# Altium footprint library Con Audio.PcbLib: 10 footprints
Each footprint in its own frame and in the unit in brackets; x right, y up, seen from the top. Pads: shape width x height; smd on the part's side, far side on the other; paste and mask are expansions set on the pad; w line width, h text height; cw(c..) or ccw(c..) is an arc to the next point about the centre after c.
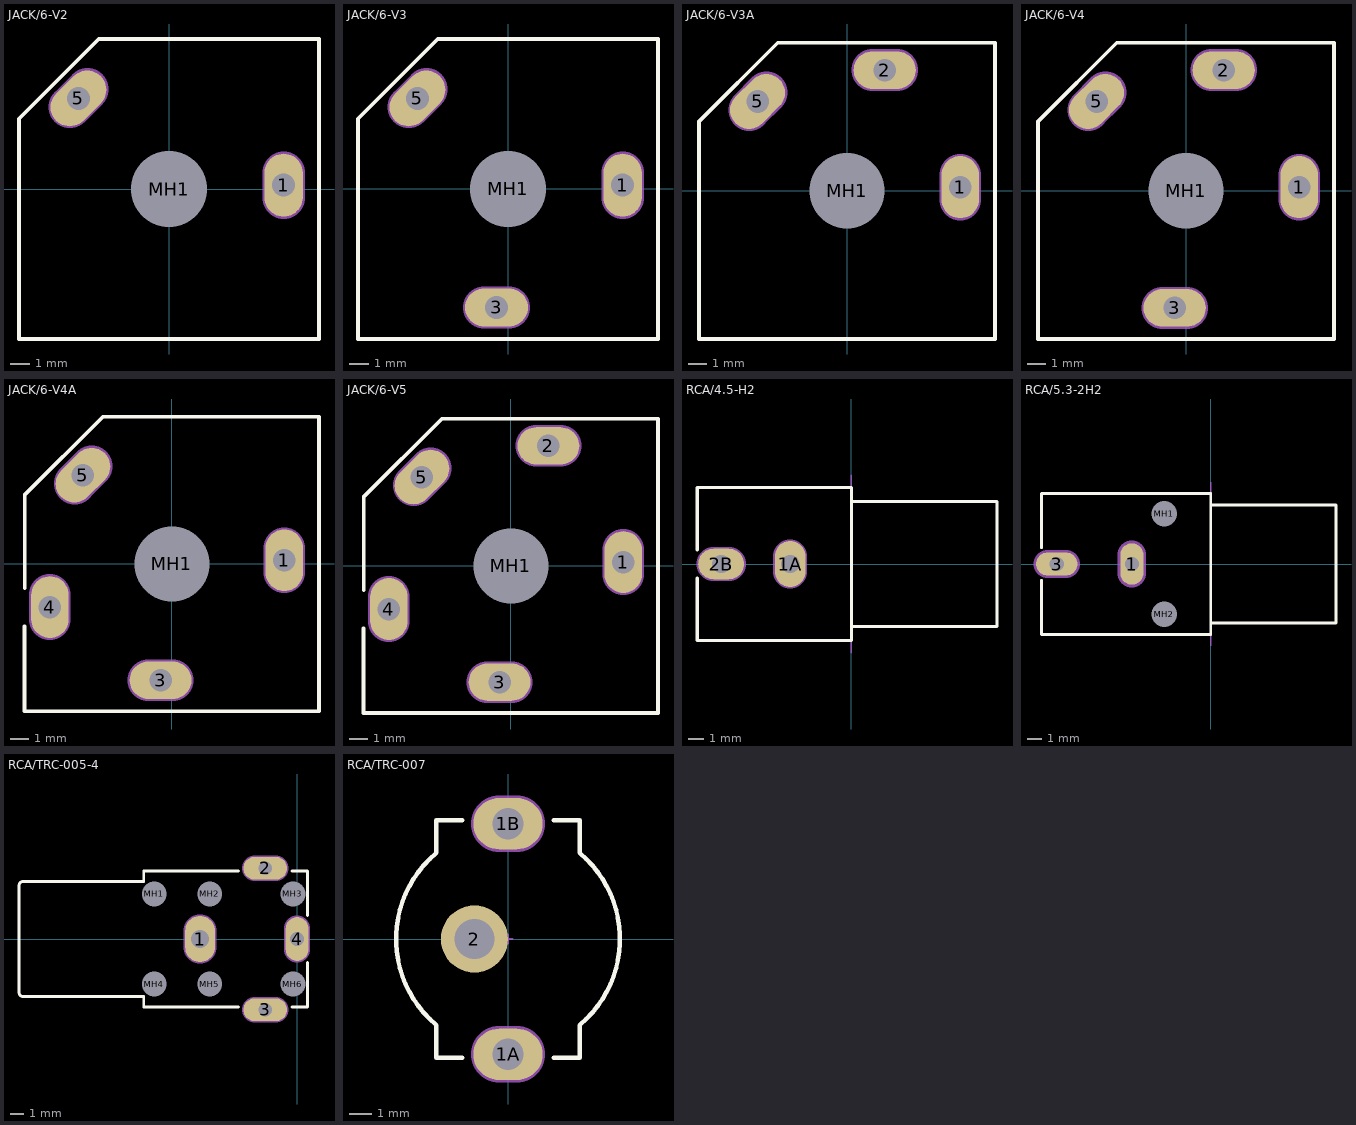
[diagram p0: the footprints below, top view; thin cyan lines are the x and y axes]

## JACK/6-V2 [mm] "Connector; Jack Socket, 1/4\" [6.5mm], Thru-Hole, 2 Position, Vertical, Body 15.7 x 15.7 x 31 mm (WxTxH)"
height 31.1
pads (3):
  oval 2x3.3 hole 1.2: 1(6,0.2)
  oval 2x3.3 hole 1.2 rot 135: 5(-4.738,4.738)
  round 3.7 hole 4 unplated: MH1(0,0)
Top Overlay:
  lines w0.2: -7.85,-7.85 7.85,-7.85 7.85,7.85 -3.675,7.85 -7.85,3.675 -7.85,-7.85
Mechanical 1:
  lines w1.2: -5.185,4.295 -4.266,5.214 ; 6,-0.45 6,0.85
  text "Alert PCB fab to slot details" at -7.9,9.66 h0.3
  text "Slot 1.2x2.5mm, PTH" at -7.9,9.16 h0.3
  text "Assign keep-out area to slot" at -7.9,10.16 h0.3
  text "Mech 1 - Slot cut-out" at -7.9,8.66 h0.3
  text "Mech 2 - Clearance, move to internal plane if present" at -7.9,8.16 h0.3
Mechanical 2:
  lines w2.216: -5.185,4.295 -4.266,5.214 ; 6,-0.45 6,0.85

## JACK/6-V3 [mm] "Connector; Jack Socket, 1/4\" [6.5mm], Thru-Hole, 3 Position, Vertical, Body 15.7 x 15.7 x 31 mm (WxTxH)"
height 31.1
pads (4):
  oval 2x3.3 hole 1.2: 1(6,0.2)
  oval 3.3x2 hole 1.2: 3(-0.6,-6.2)
  oval 2x3.3 hole 1.2 rot 135: 5(-4.738,4.738)
  round 3.7 hole 4 unplated: MH1(0,0)
Top Overlay:
  lines w0.2: -7.85,-7.85 -7.85,3.675 -3.675,7.85 7.85,7.85 7.85,-7.85 -7.85,-7.85
Mechanical 1:
  lines w1.2: -5.185,4.295 -4.266,5.214 ; -1.25,-6.2 0.05,-6.2 ; 6,-0.45 6,0.85
  text "Mech 2 - Clearance, move to internal plane if present" at -7.9,8.16 h0.3
  text "Mech 1 - Slot cut-out" at -7.9,8.66 h0.3
  text "Assign keep-out area to slot" at -7.9,10.16 h0.3
  text "Slot 1.2x2.5mm, PTH" at -7.9,9.16 h0.3
  text "Alert PCB fab to slot details" at -7.9,9.66 h0.3
Mechanical 2:
  lines w2.216: -5.185,4.295 -4.266,5.214 ; -1.25,-6.2 0.05,-6.2 ; 6,-0.45 6,0.85

## JACK/6-V3A [mm] "Connector; Jack Socket, 1/4\" [6.5mm], Thru-Hole, 3 Position, Vertical, Body 15.7 x 15.7 x 31 mm (WxTxH)"
height 31.1
pads (4):
  oval 2x3.3 hole 1.2: 1(6,0.2)
  oval 3.3x2 hole 1.2: 2(2,6.4)
  oval 2x3.3 hole 1.2 rot 135: 5(-4.738,4.738)
  round 3.7 hole 4 unplated: MH1(0,0)
Top Overlay:
  lines w0.2: -7.85,-7.85 7.85,-7.85 7.85,7.85 -3.675,7.85 -7.85,3.675 -7.85,-7.85
Mechanical 1:
  lines w1.2: -5.185,4.295 -4.266,5.214 ; 1.35,6.4 2.65,6.4 ; 6,-0.45 6,0.85
  text "Mech 2 - Clearance, move to internal plane if present" at -7.9,8.16 h0.3
  text "Mech 1 - Slot cut-out" at -7.9,8.66 h0.3
  text "Assign keep-out area to slot" at -7.9,10.16 h0.3
  text "Slot 1.2x2.5mm, PTH" at -7.9,9.16 h0.3
  text "Alert PCB fab to slot details" at -7.9,9.66 h0.3
Mechanical 2:
  lines w2.216: -5.185,4.295 -4.266,5.214 ; 1.35,6.4 2.65,6.4 ; 6,-0.45 6,0.85

## JACK/6-V4 [mm] "Connector; Jack Socket, 1/4\" [6.5mm], Thru-Hole, 4 Position, Vertical, Body 15.7 x 15.7 x 31 mm (WxTxH)"
height 31.1
pads (5):
  oval 2x3.3 hole 1.2: 1(6,0.2)
  oval 3.3x2 hole 1.2: 2(2,6.4) 3(-0.6,-6.2)
  oval 2x3.3 hole 1.2 rot 135: 5(-4.738,4.738)
  round 3.7 hole 4 unplated: MH1(0,0)
Top Overlay:
  lines w0.2: -7.85,-7.85 7.85,-7.85 7.85,7.85 -3.675,7.85 -7.85,3.675 -7.85,-7.85
Mechanical 1:
  lines w1.2: -5.185,4.295 -4.266,5.214 ; -1.25,-6.2 0.05,-6.2 ; 1.35,6.4 2.65,6.4 ; 6,-0.45 6,0.85
  text "Mech 2 - Clearance, move to internal plane if present" at -7.9,8.16 h0.3
  text "Mech 1 - Slot cut-out" at -7.9,8.66 h0.3
  text "Assign keep-out area to slot" at -7.9,10.16 h0.3
  text "Slot 1.2x2.5mm, PTH" at -7.9,9.16 h0.3
  text "Alert PCB fab to slot details" at -7.9,9.66 h0.3
Mechanical 2:
  lines w2.216: -5.185,4.295 -4.266,5.214 ; -1.25,-6.2 0.05,-6.2 ; 1.35,6.4 2.65,6.4 ; 6,-0.45 6,0.85

## JACK/6-V4A [mm] "Connector; Jack Socket, 1/4\" [6.5mm], Thru-Hole, 4 Position, Vertical, Body 15.7 x 15.7 x 31 mm (WxTxH)"
height 31.1
pads (5):
  oval 2x3.3 hole 1.2: 1(6,0.2) 4(-6.5,-2.3)
  oval 3.3x2 hole 1.2: 3(-0.6,-6.2)
  oval 2x3.3 hole 1.2 rot 135: 5(-4.738,4.738)
  round 3.7 hole 4 unplated: MH1(0,0)
Top Overlay:
  lines w0.2: -7.85,-3.32 -7.85,-7.85 7.85,-7.85 7.85,7.85 -3.675,7.85 -7.85,3.675 -7.85,-1.28
Mechanical 1:
  lines w1.2: -6.5,-2.95 -6.5,-1.65 ; -5.185,4.295 -4.266,5.214 ; -1.25,-6.2 0.05,-6.2 ; 6,-0.45 6,0.85
  text "Alert PCB fab to slot details" at -7.9,9.66 h0.3
  text "Slot 1.2x2.5mm, PTH" at -7.9,9.16 h0.3
  text "Assign keep-out area to slot" at -7.9,10.16 h0.3
  text "Mech 1 - Slot cut-out" at -7.9,8.66 h0.3
  text "Mech 2 - Clearance, move to internal plane if present" at -7.9,8.16 h0.3
Mechanical 2:
  lines w2.216: -6.5,-2.95 -6.5,-1.65 ; -5.185,4.295 -4.266,5.214 ; -1.25,-6.2 0.05,-6.2 ; 6,-0.45 6,0.85

## JACK/6-V5 [mm] "Connector; Jack Socket, 1/4\" [6.5mm], Thru-Hole, 5 Position, Vertical, Body 15.7 x 15.7 x 31 mm (WxTxH)"
height 31.1
pads (6):
  oval 2x3.3 hole 1.2: 1(6,0.2) 4(-6.5,-2.3)
  oval 3.3x2 hole 1.2: 2(2,6.4) 3(-0.6,-6.2)
  oval 2x3.3 hole 1.2 rot 135: 5(-4.738,4.738)
  round 3.7 hole 4 unplated: MH1(0,0)
Top Overlay:
  lines w0.2: -7.85,-3.32 -7.85,-7.85 7.85,-7.85 7.85,7.85 -3.675,7.85 -7.85,3.675 -7.85,-1.28
Mechanical 1:
  lines w1.2: -6.5,-2.95 -6.5,-1.65 ; -5.185,4.295 -4.266,5.214 ; -1.25,-6.2 0.05,-6.2 ; 1.35,6.4 2.65,6.4 ; 6,-0.45 6,0.85
  text "Alert PCB fab to slot details" at -7.9,9.66 h0.3
  text "Slot 1.2x2.5mm, PTH" at -7.9,9.16 h0.3
  text "Assign keep-out area to slot" at -7.9,10.16 h0.3
  text "Mech 1 - Slot cut-out" at -7.9,8.66 h0.3
  text "Mech 2 - Clearance, move to internal plane if present" at -7.9,8.16 h0.3
Mechanical 2:
  lines w2.216: -6.5,-2.95 -6.5,-1.65 ; -5.185,4.295 -4.266,5.214 ; -1.25,-6.2 0.05,-6.2 ; 1.35,6.4 2.65,6.4 ; 6,-0.45 6,0.85

## RCA/4.5-H2 [mm] "Two Conductor Jack (RCA), Right Angle, Thru-Hole, Body 10 x 10 x 13 mm (WxTxH)"
height 13
pads (2):
  oval 2x3 hole 1.2: 1A(-4,0)
  oval 3x2 hole 1.2: 2B(-8.496,0)
Top Overlay:
  lines w0.2: -10.075,5 -0.018,5 ; -10.057,-0.92 -10.057,-5 0,-5 0,5 ; -10.057,0.92 -10.057,5 ; 0,-4.065 9.5,-4.065 9.5,4.065 0,4.065
Mechanical 1:
  lines w0.1: 0,-5.8 0,5.8
  lines w1.2: -8.996,0 -7.996,0 ; -4,-0.5 -4,0.5
  text "Mech 2 - Clearance, move to internal plane if present" at -10.057,6.342 h0.3
  text "Mech 1 - Slot cut-out" at -10.057,6.842 h0.3
  text "Assign keep-out area to slot" at -10.057,8.342 h0.3
  text "Slot 1.2x2.2mm, PTH" at -10.057,7.342 h0.3
  text "Alert PCB fab to slot details" at -10.057,7.842 h0.3
  text "PCB Edge" at -0.333,-4.618 h0.25
Mechanical 2:
  lines w2.216: -8.996,0 -7.996,0 ; -4,-0.5 -4,0.5

## RCA/5.3-2H2 [mm] "Two Conductor Jack (RCA), Right Angle, Thru-Hole, Body 10 x 12 x 13 mm (WxTxH)"
height 13
pads (4):
  oval 1.65x2.94 hole 1: 1(-5.59,0)
  oval 2.94x1.65 hole 1: 3(-10.924,0)
  round 1.5 hole 1.8 unplated: MH1(-3.304,3.556) MH2(-3.304,-3.556)
Top Overlay:
  lines w0.2: -12,-1.15 -12,-5 0,-5 0,5 -12,5 -12,1.15 ; 0,-4.19 8.89,-4.19 8.89,4.19 0,4.19
Mechanical 1:
  lines w0.1: 0,-5.8 0,5.8
  lines w1: -11.574,0 -10.274,0 ; -5.59,-0.65 -5.59,0.65
  text "PCB Edge" at -0.343,-4.647 h0.25
  text "Alert PCB fab to slot details" at -12,7.842 h0.3
  text "Slot 1x2.3mm, PTH" at -12,7.342 h0.3
  text "Assign keep-out area to slot" at -12,8.342 h0.3
  text "Mech 1 - Slot cut-out" at -12,6.842 h0.3
  text "Mech 2 - Clearance, move to internal plane if present" at -12,6.342 h0.3
Mechanical 2:
  lines w2.016: -11.574,0 -10.274,0 ; -5.59,-0.65 -5.59,0.65

## RCA/TRC-005-4 [mm] "RCA Phono Jack, Right Angle, Thru-Hole, Body 20.8 x 9.8 x 11 mm (LxWxH)"
height 11
pads (10):
  oval 2.15x3.35 hole 1.3: 1(-7,0)
  oval 3.15x1.65 hole 1: 2(-2.3,5.1) 3(-2.3,-5.1)
  oval 1.65x3.15 hole 1: 4(0,0)
  round 1.5 hole 1.8 unplated: MH1(-10.3,3.25) MH2(-6.3,3.25) MH3(-0.3,3.25) MH4(-10.3,-3.25) MH5(-6.3,-3.25) MH6(-0.3,-3.25)
Top Overlay:
  lines w0.2: -4.235,-4.9 -11.05,-4.9 -11.05,-4.15 -19.75,-4.15 cw(c-19.75,-3.85) -20.05,-3.85 -20.05,3.85 cw(c-19.75,3.85) -19.75,4.15 -11.05,4.15 -11.05,4.9 -4.235,4.9 ; -0.365,-4.9 0.75,-4.9 0.75,-1.69 ; -0.365,4.9 0.75,4.9 0.75,1.69
Mechanical 1:
  lines w1: -3.104,5.1 -1.604,5.1 ; -3.05,-5.1 -1.55,-5.1 ; 0,-0.75 0,0.75
  lines w1.3: -7,-0.6 -7,0.6
  text "Assign keep-out area to slot" at -11.026,7.643 h0.3
  text "Alert PCB fab to slot details" at -11.026,7.143 h0.3
  text "Mech 2 - Clearance, move to internal plane if present" at -11.026,6.243 h0.3
  text "Mech 1 - Slot cut-out" at -11.026,6.743 h0.3
Mechanical 2:
  lines w1.866: -3.05,-5.1 -1.55,-5.1 ; -3.05,5.1 -1.55,5.1 ; 0,-0.75 0,0.75
  lines w2.366: -7,-0.6 -7,0.6

## RCA/TRC-007 [mm] "RCA Socket, Vertical, Thru-Hole, Body 10.6 x 10 x 15 mm (LxWxH)"
height 15
pads (3):
  oval 3.1x2.3 hole 1.4: 1A(0,-5.15) 1B(0,5.15)
  round 3 hole 1.8: 2(-1.5,0)
Top Overlay:
  lines w0.2: -3.221,-3.825 cw(c0,0) -3.221,3.825 ; -3.2,-3.845 -3.2,-5.3 -2.05,-5.3 ; -3.2,3.845 -3.2,5.3 -2.05,5.3 ; 2.05,-5.3 3.2,-5.3 3.2,-3.845 ; 2.05,5.3 3.2,5.3 3.2,3.845 ; 3.221,-3.825 ccw(c0,0) 3.221,3.825
Mechanical 1:
  lines w0.1: -0.2,0 0.2,0 ; 0,-0.2 0,0.2
  lines w1.4: -0.4,-5.15 0.4,-5.15 ; -0.4,5.15 0.4,5.15
  text "Assign keep-out area to slot" at -6.358,8.341 h0.3
  text "Alert PCB fab to slot details" at -6.358,7.841 h0.3
  text "Mech 2 - Clearance, move to internal plane if present" at -6.358,6.941 h0.3
  text "Mech 1 - Slot cut-out" at -6.358,7.441 h0.3
Mechanical 2:
  lines w2.516: -0.4,-5.15 0.4,-5.15 ; -0.4,5.15 0.4,5.15